# Altium footprint library Motors.PcbLib: 1 footprints
Each footprint in its own frame and in the unit in brackets; x right, y up, seen from the top. Pads: shape width x height; smd on the part's side, far side on the other; paste and mask are expansions set on the pad; w line width, h text height; cw(c..) or ccw(c..) is an arc to the next point about the centre after c.
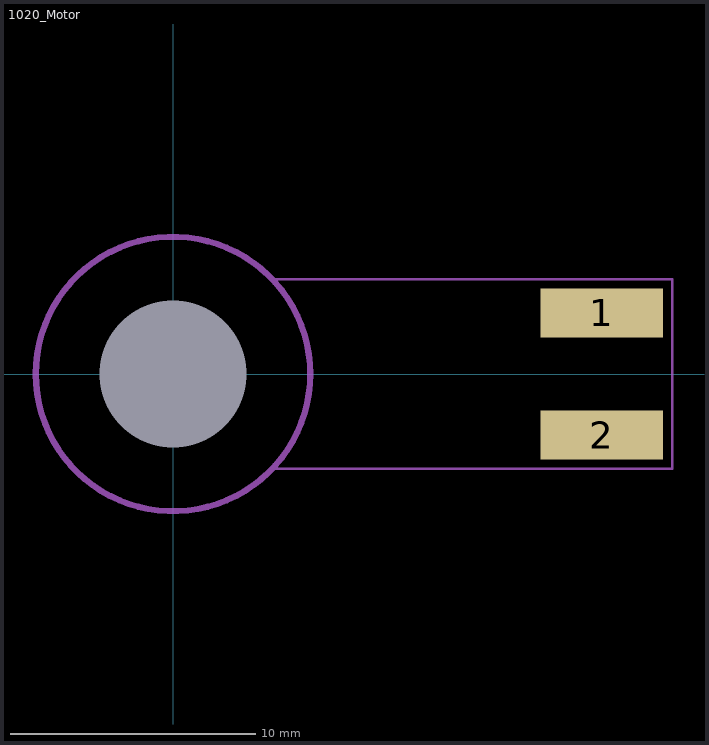
[diagram p0: the footprint, top view; thin cyan lines are the x and y axes]

## 1020_Motor [mm] "1020_Motor"
pads (3):
  round 0 hole 6 unplated: 0(0,0)
  rect 5x2 smd: 1(17.5,2.5) 2(17.5,-2.5)
Top Assembly:
  circle w0.254: c0,0 r5.601
  lines w0.1: 3.975,3.875 5.75,3.875 19.775,3.875 20.375,3.875 20.375,-3.875 4.8,-3.875 4.025,-3.875
  text "2" at 17.175,-3.275 h1.52
  text "1" at 17.375,1.725 h1.52
  text ".Designator" at -2.725,-0.825 h1.52